# Altium schematic symbol library kycon-dc-pwr.SchLib: 1 symbol
Pins are listed as number, name and electrical type; pins without a type are passive.

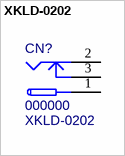
[diagram p0: symbol XKLD-0202]

## XKLD-0202
designator CN?, comment 000000  value XKLD-0202
Low Voltage Power Supply Connector; MF: KYCON; PN: 000000; ExtraInfo: *; Package: PTH; MF PN: XKLD-0202; Price: *; Digi-Key PN: *
signal-integrity model Connector
footprint KLDX-0202 (DC Power Jack, 2.0mm, KLD Series, PCB Mount)
pins: 1 (power), 2 (power), 3 (power)